# EAGLE library part LM25085A (library national-semi)
Step Down Switching Controller 42V Constant On-Time PFET Buck Switching Controller with 0.9V Reference
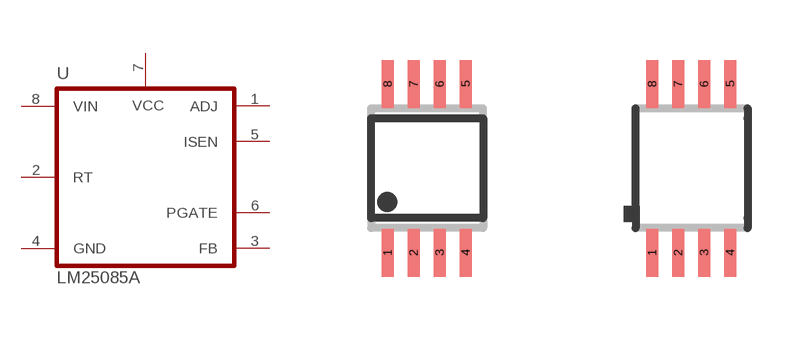
[diagram p9: symbol with the pads of MSOP08; footprints MSOP08, MSOP08-EP]

Designator prefix U

## LM25085AMM  [MSOP08]
1  ADJ  in
2  RT  in
3  FB  in
4  GND  pwr
5  ISEN  in
6  PGATE  out
7  VCC  out
8  VIN  in

## LM25085AMY  [MSOP08-EP]
Pads as for MSOP08

## LM25085ASD  [LLP8-3X3]
Pads as for MSOP08

## Footprint MSOP08 (pad centres in mm)
Mini Small Outline Package
smd 0.3 x 1.2: 1 -0.976,-2.113; 2 -0.326,-2.113; 3 0.324,-2.113; 4 0.974,-2.113; 5 0.974,2.112; 6 0.324,2.112; 7 -0.326,2.112; 8 -0.976,2.112

## Footprint MSOP08-EP (pad centres in mm)
Mini Small Outline Package exposed pad
smd 0.3 x 1.2: 1 -0.976,-2.113; 2 -0.326,-2.113; 3 0.324,-2.113; 4 0.974,-2.113; 5 0.974,2.112; 6 0.324,2.112; 7 -0.326,2.112; 8 -0.976,2.112

## Footprint LLP8-3X3 (pad centres in mm)
8-Pin LLP (3x3mm body) NS Package Number SDA08A
smd 0.25 x 0.6: 1 -0.75,-1.4; 2 -0.25,-1.4; 3 0.25,-1.4; 4 0.75,-1.4; 5 0.75,1.4; 6 0.25,1.4; 7 -0.25,1.4; 8 -0.75,1.4